# Altium schematic symbol library AD5643R.SchLib: 1 symbol
Pins are listed as number, name and electrical type; pins without a type are passive.

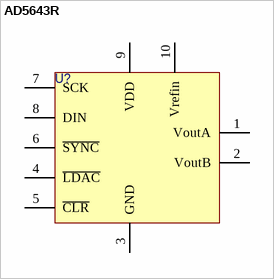
[diagram p0: symbol AD5643R]

## AD5643R
designator U?, comment MCP4922  (value not drawn)
pins: 1 VoutA, 2 VoutB, 3 GND, 4 ~{LDAC}, 5 ~{CLR}, 6 ~{SYNC}, 7 SCK, 8 DIN, 9 VDD, 10 Vrefin